# Altium footprint library WS-TATU.PcbLib: 4 footprints
Each footprint in its own frame and in the unit in brackets; x right, y up, seen from the top. Pads: shape width x height; smd on the part's side, far side on the other; paste and mask are expansions set on the pad; w line width, h text height; cw(c..) or ccw(c..) is an arc to the next point about the centre after c.
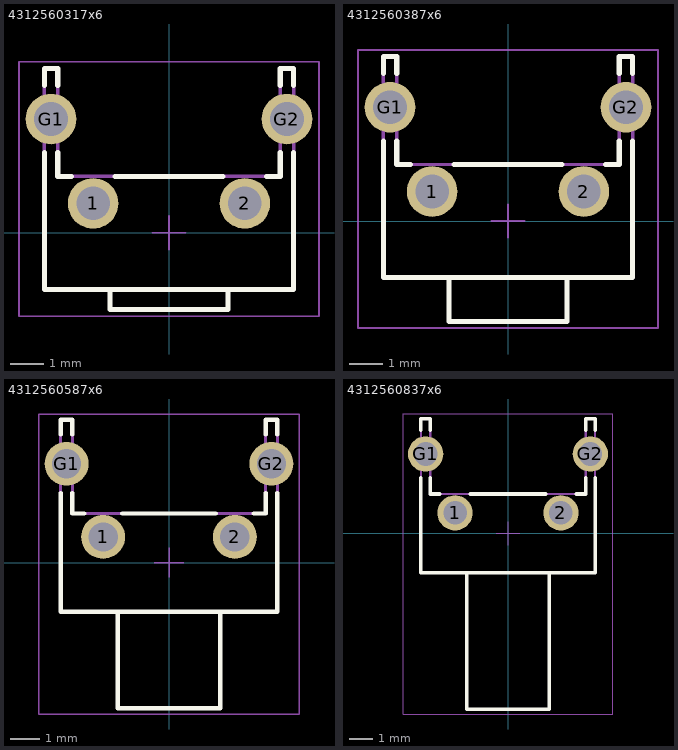
[diagram p0: the footprints below, top view; thin cyan lines are the x and y axes]

## 4312560317x6 [mm] "6x6mm right angle Tact Switch with ground terminal, THT version"
height 7.2
pads (4):
  round 1.5 hole 1: 1(-2.25,0.875) 2(2.25,0.875) G1(-3.5,3.375) G2(3.5,3.375)
Top Overlay:
  lines w0.15: -3.7,2.375 -3.7,-1.675 3.7,-1.675 3.7,2.375 ; -3.7,4.375 -3.7,4.875 -3.3,4.875 -3.3,4.375 ; -3.3,2.375 -3.3,1.675 -2.9,1.675 ; -1.75,-1.675 -1.75,-2.275 1.75,-2.275 1.75,-1.675 ; -1.6,1.675 1.6,1.675 ; 2.9,1.675 3.3,1.675 3.3,2.375 ; 3.3,4.375 3.3,4.875 3.7,4.875 3.7,4.375
Top Designator:
  text ".Designator" at -7.498,-0.5 h1.5
Top Component Outline:
  lines w0.1: -1.75,-1.675 -1.75,-2.275 1.75,-2.275 1.75,-1.675 ; -3.7,-1.675 -3.7,4.875 -3.3,4.875 -3.3,1.675 3.3,1.675 3.3,4.875 3.7,4.875 3.7,-1.675 -3.7,-1.675
Top Courtyard:
  lines w0.05: -0.5,0 0.5,0 ; 0,-0.5 0,0.5 ; -4.45,-2.475 -4.45,5.075 4.45,5.075 4.45,-2.475 -4.45,-2.475
3D body "4312560317x6.stp": height 7.25, standoff -3.45, extent -4.2,-2.275 4.2,4.875

## 4312560387x6 [mm] "6x6mm right angle Tact Switch with ground terminal, THT version"
height 7.2
pads (4):
  round 1.5 hole 1: 1(-2.25,0.875) 2(2.25,0.875) G1(-3.5,3.375) G2(3.5,3.375)
Top Overlay:
  lines w0.15: -3.7,2.375 -3.7,-1.675 3.7,-1.675 3.7,2.375 ; -3.7,4.375 -3.7,4.875 -3.3,4.875 -3.3,4.375 ; -3.3,2.375 -3.3,1.675 -2.9,1.675 ; -1.75,-1.675 -1.75,-2.975 1.75,-2.975 1.75,-1.675 ; -1.6,1.675 1.6,1.675 ; 2.9,1.675 3.3,1.675 3.3,2.375 ; 3.3,4.375 3.3,4.875 3.7,4.875 3.7,4.375
Top Designator:
  text ".Designator" at -7.498,-0.5 h1.5
Top Component Outline:
  lines w0.1: -1.75,-1.675 -1.75,-2.975 1.75,-2.975 1.75,-1.675 ; -3.7,-1.675 3.7,-1.675 3.7,4.875 3.3,4.875 3.3,1.675 -3.3,1.675 -3.3,4.875 -3.7,4.875 -3.7,-1.675
Top Courtyard:
  lines w0.05: -0.5,0 0.5,0 ; 0,-0.5 0,0.5 ; -4.45,-3.175 4.45,-3.175 4.45,5.075 -4.45,5.075 -4.45,-3.175
3D body "4312560387x6.stp": height 7.25, standoff -3.45, extent -4.2,-2.975 4.2,4.875

## 4312560587x6 [mm] "6x6mm right angle Tact Switch with ground terminal, THT version"
height 7.2
pads (4):
  round 1.5 hole 1: 1(-2.25,0.875) 2(2.25,0.875) G1(-3.5,3.375) G2(3.5,3.375)
Top Overlay:
  lines w0.15: -3.7,2.375 -3.7,-1.675 3.7,-1.675 3.7,2.375 ; -3.7,4.375 -3.7,4.875 -3.3,4.875 -3.3,4.375 ; -3.3,2.375 -3.3,1.675 -2.9,1.675 ; -1.75,-1.675 -1.75,-4.975 1.75,-4.975 1.75,-1.675 ; -1.6,1.675 1.6,1.675 ; 2.9,1.675 3.3,1.675 3.3,2.375 ; 3.3,4.375 3.3,4.875 3.7,4.875 3.7,4.375
Top Designator:
  text ".Designator" at -7.498,-0.5 h1.5
Top Component Outline:
  lines w0.1: -1.75,-1.675 -1.75,-4.975 1.75,-4.975 1.75,-1.675 ; -3.7,-1.675 -3.7,4.875 -3.3,4.875 -3.3,1.675 3.3,1.675 3.3,4.875 3.7,4.875 3.7,-1.675 -3.7,-1.675
Top Courtyard:
  lines w0.05: -0.5,0 0.5,0 ; 0,-0.5 0,0.5 ; -4.45,-5.175 -4.45,5.075 4.45,5.075 4.45,-5.175 -4.45,-5.175
3D body "4312560587x6.stp": height 7.25, standoff -3.45, extent -4.2,-4.975 4.2,4.875

## 4312560837x6 [mm] "6x6mm right angle Tact Switch with ground terminal, THT version"
height 7.2
pads (4):
  round 1.5 hole 1: 1(-2.25,0.875) 2(2.25,0.875) G1(-3.5,3.375) G2(3.5,3.375)
Top Overlay:
  lines w0.15: -3.7,2.375 -3.7,-1.675 3.7,-1.675 3.7,2.375 ; -3.7,4.375 -3.7,4.875 -3.3,4.875 -3.3,4.375 ; -3.3,2.375 -3.3,1.675 -2.9,1.675 ; -1.75,-1.675 -1.75,-7.475 1.75,-7.475 1.75,-1.675 ; -1.6,1.675 1.6,1.675 ; 2.9,1.675 3.3,1.675 3.3,2.375 ; 3.3,4.375 3.3,4.875 3.7,4.875 3.7,4.375
Top Designator:
  text ".Designator" at -7.498,-0.5 h1.5
Top Component Outline:
  lines w0.1: -1.75,-1.675 -1.75,-7.475 1.75,-7.475 1.75,-1.675 ; -3.7,-1.675 3.7,-1.675 3.7,4.875 3.3,4.875 3.3,1.675 -3.3,1.675 -3.3,4.875 -3.7,4.875 -3.7,-1.675
Top Courtyard:
  lines w0.05: -0.5,0 0.5,0 ; 0,-0.5 0,0.5 ; -4.45,-7.675 4.45,-7.675 4.45,5.075 -4.45,5.075 -4.45,-7.675
3D body "4312560837x6.stp": height 7.25, standoff -3.45, extent -4.2,-7.475 4.2,4.875